# Altium footprint library 43045-1802.PCBLIB: 1 footprints
Each footprint in its own frame and in the unit in brackets; x right, y up, seen from the top. Pads: shape width x height; smd on the part's side, far side on the other; paste and mask are expansions set on the pad; w line width, h text height; cw(c..) or ccw(c..) is an arc to the next point about the centre after c.
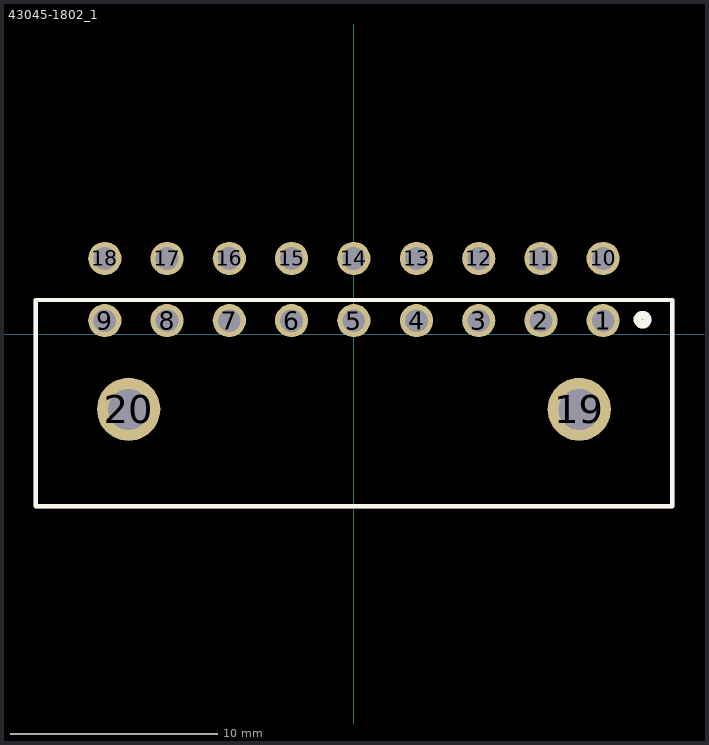
[diagram p0: the footprint, top view; thin cyan lines are the x and y axes]

## 43045-1802_1 [mil]
pads (20):
  round 63 hole 43: 1(472.72,25.75) 2(354.72,25.75) 3(236.72,25.75) 4(118.72,25.75) 5(-0.28,25.75) 6(-118.39,25.75) 7(-236.5,25.75) 8(-354.61,25.75) 9(-472.72,25.75) 10(472.72,143.75) 11(354.72,143.75) 12(236.72,143.75) 13(118.72,143.75) 14(-0.28,143.75) 15(-118.39,143.75) 16(-236.5,143.75) 17(-354.61,143.75) 18(-472.72,143.75)
  round 120 hole 78: 19(427.5,-142.5) 20(-427.5,-142.5)
Top Overlay:
  circle w16: c547.5,27.5 r9
  lines w8: -603.63,-326.25 603.72,-326.25 603.72,64.75 -603.63,64.75 -603.63,-326.25
Mechanical 16:
  lines w8: -603.63,-326.25 -603.63,64.75 603.72,64.75 603.72,-326.25 -603.63,-326.25
3D body "430451802.stp": height 340.35, standoff -130.12, extent -613.46,-326.13 612.92,155.76